# Altium footprint library Axsem-PIR_V.1.PcbLib: 28 footprints (part 1 of 2)
Each footprint in its own frame and in the unit in brackets; x right, y up, seen from the top. Pads: shape width x height; smd on the part's side, far side on the other; paste and mask are expansions set on the pad; w line width, h text height; cw(c..) or ccw(c..) is an arc to the next point about the centre after c.
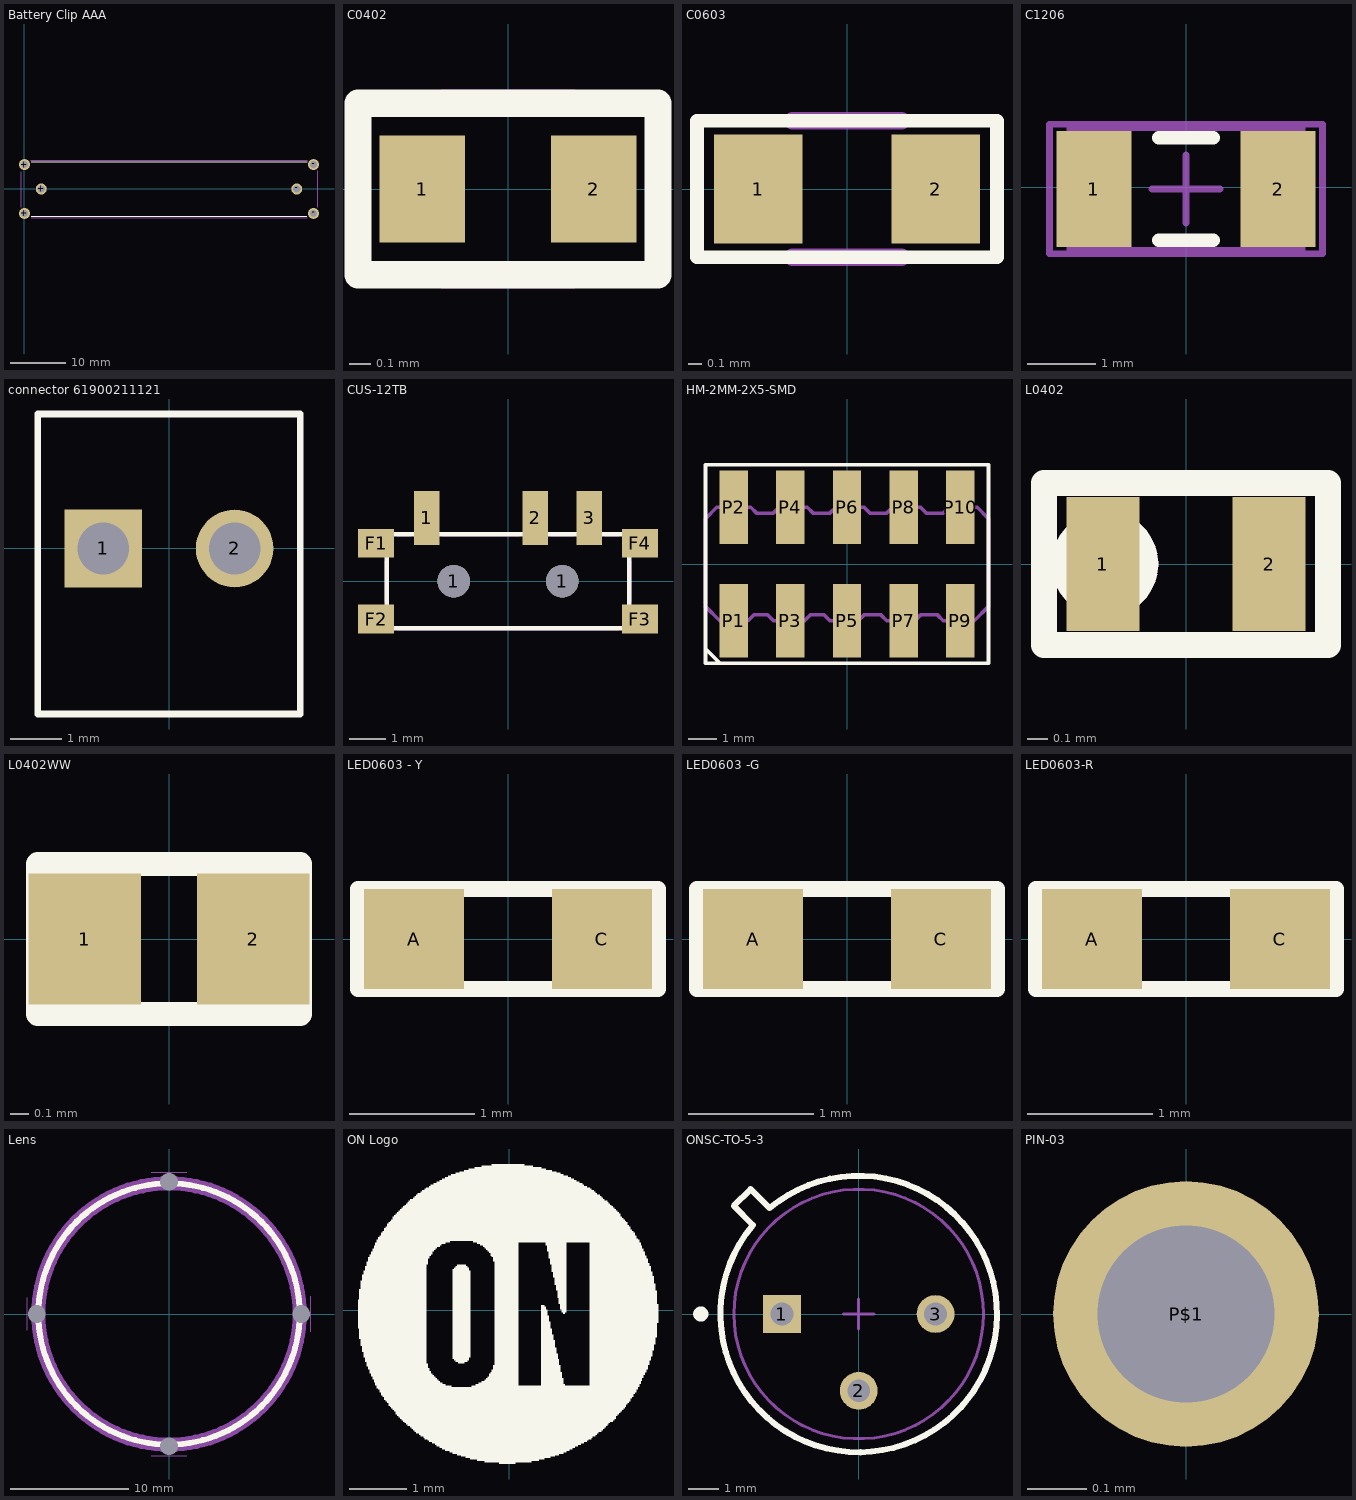
[diagram p0: the footprints below, top view; thin cyan lines are the x and y axes]

## Battery Clip AAA [mm] "Battery Clip AAA Keystone 597/591"
height 8.9
pads (6):
  round 2 hole 1.32: +(0,-4.445) +(0,4.445) +(3.05,0) -(49.53,0) -(52.58,-4.445) -(52.58,4.445)
Top Overlay:
  lines w0.1: 1.27,-5 51.308,-5 ; 1.27,5 51.435,5
Mechanical 15:
  lines w0.1: -0.635,-3.302 -0.635,3.175 ; 53.34,-3.302 53.34,3.302
Mechanical 16:
  lines w0.1: 1.143,5.2 51.435,5.2 ; 1.27,-5.2 51.435,-5.2
3D body "User Library-battclip002.STEP": height 9.74, standoff -3.8, extent 45.43,-5.025 55.83,5.025
3D body "User Library-Clip Keistone NO 597.STEP": height 8.9, standoff -3.81, extent -3.206,-5.29 3.474,5.544

## C0402 [mm] "C0402"
height 1.5
pads (2):
  rect 0.4x0.5 smd: 1(-0.4,0) 2(0.4,0)
Top Overlay:
  lines w0.127: -0.7,-0.4 -0.7,0.4 0.7,0.4 0.7,-0.4 -0.7,-0.4
Mechanical 16:
  lines w0.127: -0.3,-0.4 0.3,-0.4 ; -0.3,0.4 0.3,0.4
3D body "User Library-0402R.STEP": height 0.34, standoff 0, extent -0.52,-0.3 0.52,0.3

## C0603 [mm] "C0603"
height 1.5
pads (2):
  rect 0.65x0.8 smd: 1(-0.65,0) 2(0.65,0)
Top Overlay:
  lines w0.1: -1.1,-0.5 1.1,-0.5 1.1,0.5 -1.1,0.5 -1.1,-0.5
Mechanical 16:
  lines w0.127: -0.4,-0.5 0.4,-0.5 ; -0.4,0.5 0.4,0.5
3D body "User Library-R_0603.STEP": height 0.5, standoff 0, extent -0.8,-0.45 0.8,0.45

## C1206 [mm]
height 1.5
pads (2):
  rect 1.1x1.7 smd: 1(-1.35,-0.025) 2(1.35,-0.025)
Top Overlay:
  lines w0.2: -0.4,-0.775 0.4,-0.775 ; -0.4,0.725 0.4,0.725
Mechanical 13:
  lines w0.1: -1.7,-0.925 1.7,-0.925 1.7,0.875 -1.7,0.875 -1.7,-0.925
Mechanical 15:
  lines w0.1: -0.5,-0.025 0.5,-0.025 ; 0,-0.525 0,0.475 ; -2,-0.975 2,-0.975 2,0.925 -2,0.925 -2,-0.975
3D body: height 1.3, standoff 0, extent -1.7,-0.925 1.7,0.875

## connector 61900211121 [mm] "2 pins, straight, male header, 2.54mm"
height 11.4
pads (2):
  rect 1.5x1.5 hole 1: 1(-1.27,0)
  round 1.5 hole 1: 2(1.27,0)
Top Overlay:
  lines w0.127: -2.54,-3.2 2.54,-3.2 2.54,2.6 -2.54,2.6 -2.54,-3.2
3D body "61900211121.stp": height 11.55, standoff -3.35, extent -2.54,-3.2 2.54,2.6

## CUS-12TB [mm] "CUS-12TB"
pads (9):
  rect 0.7x1.5 smd: 1(-2.25,1.75) 2(0.75,1.75) 3(2.25,1.75)
  round 0.9 hole 0.9: 1(-1.5,0) 1(1.5,0)
  rect 1x0.8 smd: F1(-3.65,1.05) F2(-3.65,-1.05) F3(3.65,-1.05) F4(3.65,1.05)
Top Overlay:
  lines w0.127: -3.35,-1.3 3.35,-1.3 3.35,1.3 -3.35,1.3 -3.35,-1.3
Mechanical 16:
  lines w0.127: -3.35,-0.55 -3.35,0.55 ; -3.05,-1.3 3.05,-1.3 ; -3.05,1.3 -2.7,1.3 ; -1.8,1.3 0.3,1.3 ; 1.2,1.3 1.8,1.3 ; 2.7,1.3 3.05,1.3 ; 3.35,-0.55 3.35,0.55

## HM-2MM-2X5-SMD [mm] "HM-2MM-2X5-SMD"
height 5
pads (10):
  rect 1x2.6 smd: P1(-4,-2) P2(-4,2) P3(-2,-2) P4(-2,2) P5(0,-2) P6(0,2) P7(2,-2) P8(2,2) P9(4,-2) P10(4,2)
Top Overlay:
  lines w0.127: -5,-3 -4.5,-3.5 ; -5,-3 -5,-3.5 -4.5,-3.5 ; -5,-3 -5,3.5 5,3.5 5,-3.5 -4.5,-3.5
Mechanical 16:
  lines w0.127: -5,-1.5 -4.5,-2 -3.5,-2 -3.3,-1.8 -2.8,-1.8 -2.6,-2 -1.5,-2 -1.3,-1.8 -0.8,-1.8 -0.6,-2 0.4,-2 0.6,-1.8 1.2,-1.8 1.4,-2 2.4,-2 2.6,-1.8 3.2,-1.8 3.4,-2 4.5,-2 5,-1.5 5,1.6 4.6,2 3.6,2 3.4,1.8 2.8,1.8 2.6,2 1.6,2 1.4,1.8 0.8,1.8 0.6,2 -0.4,2 -0.6,1.8 -1.2,1.8 -1.4,2 -2.4,2 -2.6,1.8 -3.2,1.8 -3.4,2 -4.6,2 -5,1.6 -5,-1.4
3D body "User Library-2x5 Header RM200 SMD.STEP": height 6, standoff -0.7, extent -5.047,-3.25 4.953,3.25

## L0402 [mm] "L0402"
height 1
pads (2):
  rect 0.36x0.66 smd: 1(-0.41,0) 2(0.41,0)
Top Overlay:
  circle w0.127: c-0.4,0 r0.2
  lines w0.127: -0.7,-0.4 0.7,-0.4 0.7,0.4 -0.7,0.4 -0.7,-0.4
Mechanical 16:
  circle w0.127: c-0.4,0 r0.2
  lines w0.127: -0.3,-0.4 0.3,-0.4 ; -0.3,0.4 0.3,0.4
3D body "User Library-0402R.STEP": height 0.34, standoff 0, extent -0.52,-0.3 0.52,0.3

## L0402WW [mm] "L0402WW"
height 1
pads (2):
  rect 0.6x0.7 smd: 1(-0.45,0) 2(0.45,0)
Top Overlay:
  lines w0.127: -0.7,-0.4 -0.7,0.4 0.7,0.4 0.7,-0.4 -0.7,-0.4
Mechanical 16:
  lines w0.127: -0.3,-0.4 0.3,-0.4 ; -0.3,0.4 0.3,0.4
3D body "User Library-0402R.STEP": height 0.34, standoff 0, extent -0.52,-0.3 0.52,0.3

## LED0603 - Y [mil] "LED0603 yellow"
height 39.37
pads (2):
  rect 31.5x31.5 smd: A(-29.53,0) C(29.53,0)
Top Overlay:
  region: 27.56,4.92 27.56,-4.92 37.4,-4.92 37.4,4.92
  lines w5: -47.24,-15.75 -47.24,15.75 47.24,15.75 47.24,-15.75 -47.24,-15.75
Mechanical 16:
  lines w4: -13.78,-15.75 13.78,-15.75 ; -13.78,15.75 14.76,15.75
3D body "User Library-LED_0603_Y.STEP": height 23.62, standoff -0.08, extent -31.5,-15.75 31.5,15.75

## LED0603 -G [mil] "LED0603 green"
height 39.37
pads (2):
  rect 31.5x31.5 smd: A(-29.53,0) C(29.53,0)
Top Overlay:
  region: 27.56,4.92 27.56,-4.92 37.4,-4.92 37.4,4.92
  lines w5: -47.24,-15.75 -47.24,15.75 47.24,15.75 47.24,-15.75 -47.24,-15.75
Mechanical 16:
  lines w4: -13.78,-15.75 13.78,-15.75 ; -13.78,15.75 14.76,15.75
3D body "User Library-LED_0603_G.STEP": height 23.62, standoff -0.08, extent -31.5,-15.75 31.5,15.75

## LED0603-R [mil] "LED0603 red"
height 39.37
pads (2):
  rect 31.5x31.5 smd: A(-29.53,0) C(29.53,0)
Top Overlay:
  region: 27.56,4.92 27.56,-4.92 37.4,-4.92 37.4,4.92
  lines w5: -47.24,-15.75 47.24,-15.75 47.24,15.75 -47.24,15.75 -47.24,-15.75
Mechanical 16:
  lines w4: -13.78,-15.75 13.78,-15.75 ; -13.78,15.75 14.76,15.75
3D body "User Library-LED_0603_R.STEP": height 23.62, standoff -0.08, extent -31.5,-15.75 31.49,15.74

## Lens [mm] "Fresnel Lens"
height 1
pads (4):
  round 0 hole 1.5 square unplated: Tab1(0,11.25) Tab2(0,-11.25) Tab3(-11.25,0) Tab4(11.25,0)
Top Overlay:
  circle w0.5: c0,0 r11.1
Mechanical 13:
  circle w1.2: c0,0 r11.1
Mechanical 16:
  lines w0.1: -12.065,-1.397 -12.065,1.397 ; -1.524,-12.065 1.524,-12.065 ; -1.524,12.065 1.524,12.065 ; 12.065,-1.524 12.065,1.524

## ON Logo [mm] "ON Logo"
Top Overlay:
  drawing of 576 lines, arcs and shapes, not listed

## ONSC-TO-5-3 [mm] "TO-5, 3-Leads, Diameter 9.145 mm"
height 7.87
pads (3):
  rect 1.25x1.25 hole 0.75: 1(-2.54,0)
  round 1.25 hole 0.75: 2(0,-2.54) 3(2.54,0)
Top Overlay:
  circle w0.25: c-5.223,0 r0.125
  lines w0.2: -4.13,3.575 -3.575,4.13 -2.944,3.499 cw(c0,0) -3.499,2.944 -4.13,3.575
Mechanical 13:
  circle w0.1: c0,0 r4.127
  lines w0.1: -4.13,3.575 -3.499,2.944 ccw(c0,0) -2.944,3.499 -3.575,4.13 -4.13,3.575
Mechanical 15:
  lines w0.1: -0.5,0 0.5,0 ; 0,-0.5 0,0.5
3D body: height 6.8, standoff 3, extent -2.508,-2.508 2.635,2.635
3D body: height 6.6, standoff 3, extent -4.127,-4.127 4.127,4.127
3D body: height 3.18, standoff 1.27, extent -4.577,-4.584 4.574,4.577

## PIN-03 [mm] "PIN-03"
pads (1):
  round 0.45 hole 0.3: P$1(0,0)